# EAGLE library part LT3587 (library PowerProducts)
High Voltage Monolithic Inverter and Dual Boost
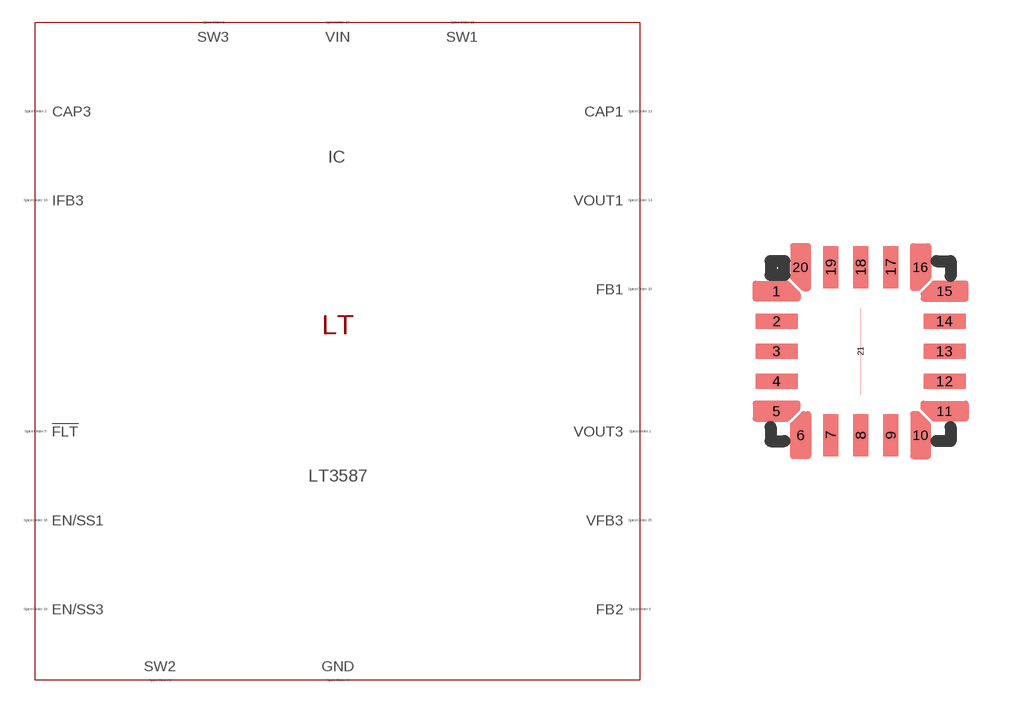
[diagram p77: symbol with the pads of QFN20(UD); footprint QFN20(UD)]

Designator prefix IC

## LT3587 (SPICEMODEL: LT3587.sub; SPICEPREFIX: X; VALUE2: LT3587)  [QFN20(UD)]
1  VOUT3  pas
2  CAP3  pas
3  SW3  pas
4  GND  pas
5  !FLT  pas
6  FB2  pas
7  GND  pas
8  GND  pas
9  SW2  pas
11  SW1  pas
12  GND  pas
13  CAP1  pas
14  VOUT1  pas
15  FB1  pas
16  EN/SS1  pas
17  VIN  pas
18  EN/SS3  pas
19  IFB3  pas
20  VFB3  pas
21  GND  pas

## Footprint QFN20(UD) (pad centres in mm)
Package generated from: QFN20(UD).asc (!PADS-POWERPCB-V5.0-BASIC! DESIGN DATABASE ASCII FILE 1.0) with :import-pads-powerpcb-v5.ulp Version 1.0.1 at 04.10.2012 14:11:23
smd 0.375 x 0.375: 1 -2.1,1.5; 5 -2.1,-1.5; 6 -1.5,-2.1; 10 1.5,-2.1; 11 2.1,-1.5; 15 2.1,1.5; 16 1.5,2.1; 20 -1.5,2.1
smd 1.05 x 0.375: 2 -2.1,0.75; 3 -2.1,0; 4 -2.1,-0.75; 12 2.1,-0.75; 13 2.1,0; 14 2.1,0.75
smd 0.375 x 1.05: 7 -0.75,-2.1; 8 0,-2.1; 9 0.75,-2.1; 17 0.75,2.1; 18 0,2.1; 19 -0.75,2.1
smd 0 x 2.175: 21 0,0